# Altium integrated library IntegratedCircuit.IntLib: 182 symbols (part 3 of 3)
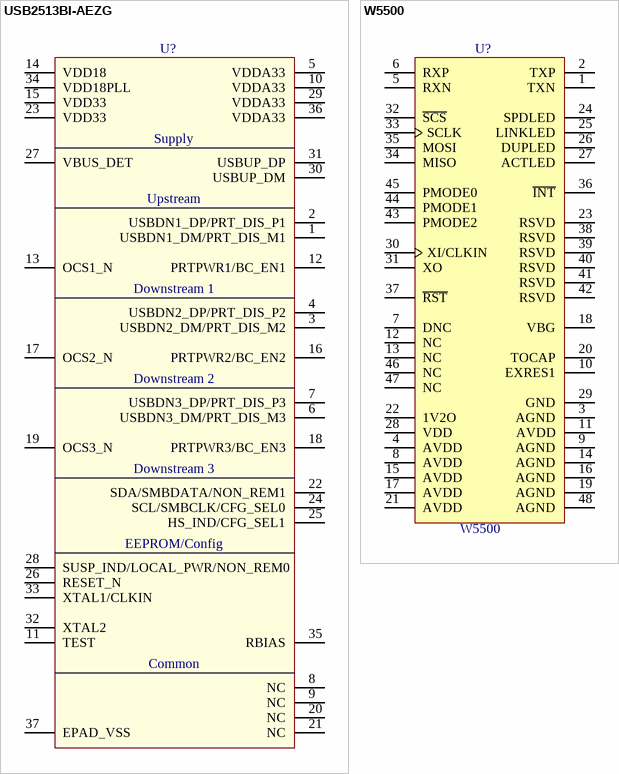
[diagram p11: symbols USB2513BI-AEZG to W5500]

## USB2513BI-AEZG
designator U?  (value not drawn)
USB 2.0 High-Speed 3-Port Hub Controller; Value: *
footprint QFN36 P0.5 T3.7X3.7 C6.0X6.0 H1.0
pins: 1 USBDN1_DM/PRT_DIS_M1, 2 USBDN1_DP/PRT_DIS_P1, 3 USBDN2_DM/PRT_DIS_M2, 4 USBDN2_DP/PRT_DIS_P2, 5 VDDA33, 6 USBDN3_DM/PRT_DIS_M3, 7 USBDN3_DP/PRT_DIS_P3, 8 NC, 9 NC, 10 VDDA33, 11 TEST, 12 PRTPWR1/BC_EN1, 13 OCS1_N, 14 VDD18, 15 VDD33, 16 PRTPWR2/BC_EN2, 17 OCS2_N, 18 PRTPWR3/BC_EN3, 19 OCS3_N, 20 NC, 21 NC, 22 SDA/SMBDATA/NON_REM1, 23 VDD33, 24 SCL/SMBCLK/CFG_SEL0, 25 HS_IND/CFG_SEL1, 26 RESET_N, 27 VBUS_DET, 28 SUSP_IND/LOCAL_PWR/NON_REM0, 29 VDDA33, 30 USBUP_DM, 31 USBUP_DP, 32 XTAL2, 33 XTAL1/CLKIN, 34 VDD18PLL, 35 RBIAS, 36 VDDA33, 37 EPAD_VSS
text: Supply; Upstream; Downstream 1; Downstream 2; Downstream 3; EEPROM/Config; Common

## W5500
designator U?
Hardwired TCP/IP embedded Ethernet controller; Value: W5500
footprint LQFP48 P0.5 C7.0X7.0 H1.6 (TSQFP, 48-Leads, Body 7.00x7.00mm, Pitch 0.50mm, IPC Medium Density)
pins: 1 TXN "TXP/TXN Signal Pair", 2 TXP "TXP/TXN Signal Pair", 3 AGND "Analog ground", 4 AVDD "Analog 3.3V power", 5 RXN "RXP/RXN Signal Pair", 6 RXP "RXP/RXN Signal Pair", 7 DNC "Do Not Connect Pin", 8 AVDD "Analog 3.3V power", 9 AGND "Analog ground", 10 EXRES1 "External Reference Resistor", 11 AVDD "Analog 3.3V power", 12 NC "Not connected", 13 NC "Not connected", 14 AGND "Analog ground", 15 AVDD "Analog 3.3V power", 16 AGND "Analog ground", 17 AVDD "Analog 3.3V power", 18 VBG "Band Gap Output Voltage, This pin will be measured as 1.2V at 25 degC. It must be left floating.", 19 AGND "Analog ground", 20 TOCAP "External Reference Capacitor, This pin must be connected to a 4.7uF capacitor. The trace length to capacitor should be short to stabilize the internal signals.", 21 AVDD "Analog 3.3V power", 22 1V2O "1.2V Regulator output voltage", 23 RSVD "It must be tied to GND.", 24 SPDLED "Speed LED, This shows the Speed status of the connected link.", 25 LINKLED "Link LED, This shows the Link status.", 26 DUPLED "Duplex LED, This shows the Duplex status for the connected link.", 27 ACTLED "Active LED, This shows that there is Carrier sense (CRS) from the active Physical Medium Sub-layer (PMD) during TX or RX activity.", 28 VDD "Digital 3.3V Power", 29 GND "Digital Ground", 30 XI/CLKIN "Crystal input / External Clock input", 31 XO "Crystal output, External 25MHz Crystal Output", 32 ~{SCS} "Chip Select for SPI bus, This pin can be asserted low to select W5500 in SPI interface.", 33 SCLK "SPI clock input, This pin is used to receive SPI Clock from SPI master.", 34 MISO "SPI master input slave(W5500) output", 35 MOSI "SPI master output slave(W5500) input", 36 ~{INT} "Interrupt output", 37 ~{RST} "Reset, RESET should be held low at least 500 us for W5500 reset.", 38 RSVD "Not connected", 39 RSVD "Not connected", 40 RSVD "Not connected", 41 RSVD "Not connected", 42 RSVD "Not connected", 43 PMODE2 "PHY Operation mode select pin", 44 PMODE1 "PHY Operation mode select pin", 45 PMODE0 "PHY Operation mode select pin", 46 NC "Not connected", 47 NC "Not connected", 48 AGND "Analog ground"